# Altium schematic symbol library QH8K22TCR.SchLib: 1 symbol
Pins are listed as number, name and electrical type; pins without a type are passive.

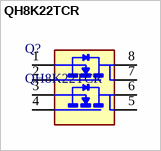
[diagram p0: symbol QH8K22TCR]

## QH8K22TCR
designator Q?
MOSFET 40V N-CHANNEL DUAL; Manufacturer: ROHM Semiconductor; Vgs(th): 1V; Vgs(max): 20V; Rds(on): 46m; Id(max): 6.5A; Gate charge: 2.6nC; PN: QH8K22TCR; Supplier 1: Mouser; Supplier Part Number 1: 755-QH8K22TCR; Vds(max): 40V; Footprint: TSMT8; Package: TSMT8
footprint TSMT8
pins: 1 S1, 2 G1, 3 S2, 4 G2, 5 D2, 6 D2, 7 D1, 8 D1